# EAGLE library part FE1.1S (library TERMINUS-USB-FE1.1S)
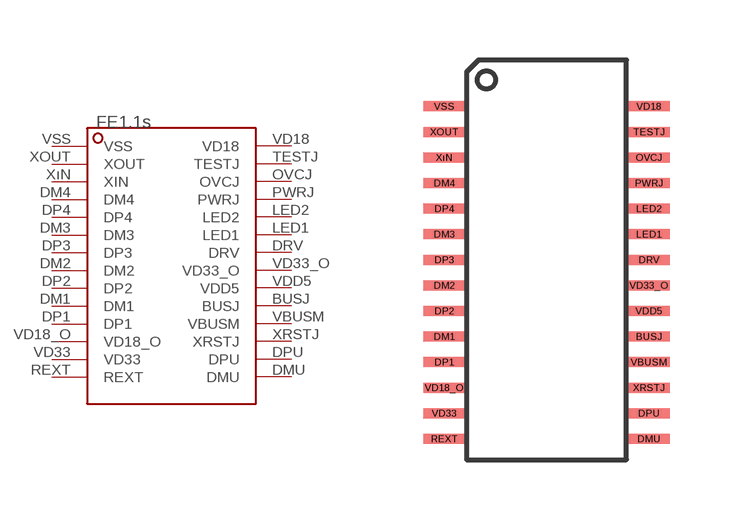
[diagram p0: symbol with the pads of FE1.1S; footprint FE1.1S]

Designator prefix -

## FE1.1S  [FE1.1S]
BUSJ  BUSJ
DM1  DM1
DM2  DM2
DM3  DM3
DM4  DM4
DMU  DMU
DP1  DP1
DP2  DP2
DP3  DP3
DP4  DP4
DPU  DPU
DRV  DRV
LED1  LED1
LED2  LED2
OVCJ  OVCJ
PWRJ  PWRJ
REXT  REXT
TESTJ  TESTJ
VBUSM  VBUSM
VD18  VD18
VD18_O  VD18_O
VD33  VD33
VD33_O  VD33_O
VDD5  VDD5
VSS  VSS
XOUT  XOUT
XRSTJ  XRSTJ
XıN  XIN

## Footprint FE1.1S (pad centres in mm)
smd 1.05 x 0.25: BUSJ 2.56,-1.92; DM1 -2.56,-1.92; DM2 -2.56,-0.64; DM3 -2.56,0.64; DM4 -2.56,1.92; DMU 2.56,-4.48; DP1 -2.56,-2.56; DP2 -2.56,-1.28; DP3 -2.56,0; DP4 -2.56,1.28; DPU 2.56,-3.84; DRV 2.56,0; LED1 2.56,0.64; LED2 2.56,1.28; OVCJ 2.56,2.56; PWRJ 2.56,1.92; REXT -2.56,-4.48; TESTJ 2.56,3.2; VBUSM 2.56,-2.56; VD18 2.56,3.84; VD18_O -2.56,-3.2; VD33 -2.56,-3.84; VD33_O 2.56,-0.64; VDD5 2.56,-1.28; VSS -2.56,3.84; XOUT -2.56,3.2; XRSTJ 2.56,-3.2; XıN -2.56,2.56